# Altium footprint library PcbLib1.PcbLib: 123 footprints (part 3 of 8)
Each footprint in its own frame and in the unit in brackets; x right, y up, seen from the top. Pads: shape width x height; smd on the part's side, far side on the other; paste and mask are expansions set on the pad; w line width, h text height; cw(c..) or ccw(c..) is an arc to the next point about the centre after c.
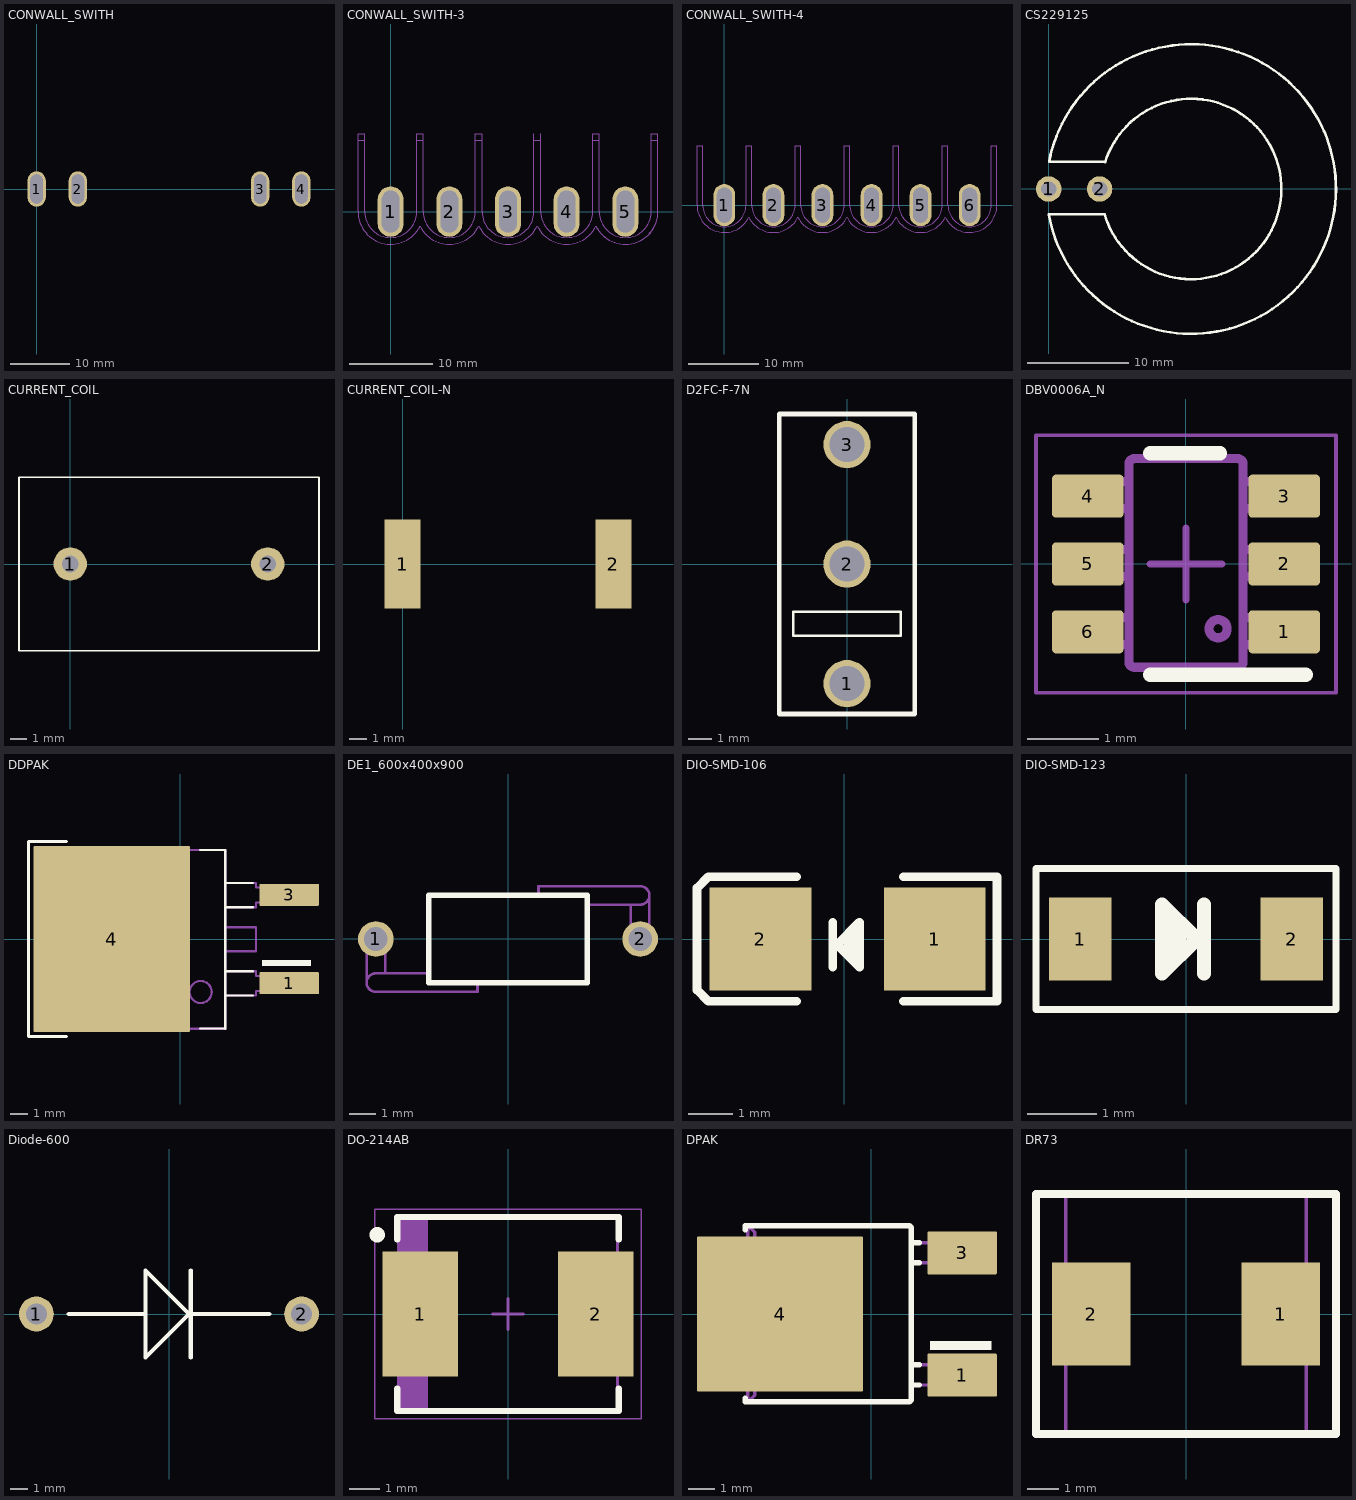
[diagram p2: the footprints below, top view; thin cyan lines are the x and y axes]

## CONWALL_SWITH [mm]
pads (4):
  oval 3.1x6 hole 2.1 slot 5 at 90 deg: 1(0,0) 2(7,0) 3(38,0) 4(45,0)
Mechanical 1:
  lines w0.013: 0,-2.45 0,2.45 ; 7,-2.451 7,2.45 ; -1.05,-1.4 ccw(c0,-1.4) 1.05,-1.4 1.05,1.4 ccw(c0,1.4) -1.05,1.4 -1.05,-1.4 ; 5.95,-1.4 ccw(c7,-1.4) 8.05,-1.4 8.05,1.4 ccw(c7,1.4) 5.95,1.4 5.95,-1.4 ; 36.95,-1.4 ccw(c38,-1.4) 39.05,-1.4 39.05,1.4 ccw(c38,1.4) 36.95,1.4 36.95,-1.4 ; 43.95,-1.4 ccw(c45,-1.4) 46.05,-1.4 46.05,1.4 ccw(c45,1.4) 43.95,1.4 43.95,-1.4

## CONWALL_SWITH-3 [mm]
pads (5):
  oval 3.1x6 hole 2.1 slot 5 at 90 deg: 1(0,0) 2(7,0) 3(14,0) 4(21,0) 5(28,0)
Mechanical 1:
  lines w0.013: 31.5,-1.72 cw(c28,0) 24.5,-1.72 ; -3.9,0 ccw(c0,0) 3.5,-1.72 ; -3.9,0 ccw(c0,0) 3.5,-1.72 ; -3.9,0 -3.9,9.3 -3.1,9.3 -3.1,0 ; -3.9,0 -3.9,8.5 -3.1,8.5 -3.1,0 ; -3.1,0 ccw(c0,0) 3.1,0 ; -3.1,0 ccw(c0,0) 3.1,0 ; -1.05,-1.4 ccw(c0,-1.4) 1.05,-1.4 ; -1.05,-1.4 ccw(c0,-1.4) 1.05,-1.4 ; -1.05,-1.4 -1.05,1.4 ; -1.05,-1.4 -1.05,1.4 ; -1.05,1.4 cw(c0,1.4) 1.05,1.4 ; -1.05,1.4 cw(c0,1.4) 1.05,1.4 ; 1.05,-1.4 1.05,1.4 ; 1.05,-1.4 1.05,1.4 ; 3.1,0 3.1,9.3 3.9,9.3 3.9,0 ; 3.1,0 3.1,8.5 3.9,8.5 3.9,0 ; 3.5,-1.72 ccw(c7,0) 10.5,-1.72 ; 3.5,-1.72 ccw(c7,0) 10.5,-1.72 ; 3.9,0 ccw(c7,0) 10.1,0 ; 3.9,0 ccw(c7,0) 10.1,0 ; 5.95,-1.4 ccw(c7,-1.4) 8.05,-1.4 ; 5.95,-1.4 ccw(c7,-1.4) 8.05,-1.4 ; 5.95,-1.4 5.95,1.4 ; 5.95,-1.4 5.95,1.4 ; 5.95,1.4 cw(c7,1.4) 8.05,1.4 ; 5.95,1.4 cw(c7,1.4) 8.05,1.4 ; 8.05,-1.4 8.05,1.4 ; 8.05,-1.4 8.05,1.4 ; 10.1,0 10.1,9.3 10.9,9.3 10.9,0 ; 10.1,0 10.1,8.5 10.9,8.5 10.9,0 ; 10.5,-1.72 ccw(c14,0) 17.5,-1.72 ; 10.5,-1.72 ccw(c14,0) 17.5,-1.72 ; 10.9,0 ccw(c14,0) 17.1,0 ; 10.9,0 ccw(c14,0) 17.1,0 ; 12.95,-1.4 ccw(c14,-1.4) 15.05,-1.4 ; 12.95,-1.4 ccw(c14,-1.4) 15.05,-1.4 ; 12.95,-1.4 12.95,1.4 ; 12.95,-1.4 12.95,1.4 ; 12.95,1.4 cw(c14,1.4) 15.05,1.4 ; 12.95,1.4 cw(c14,1.4) 15.05,1.4 ; 15.05,-1.4 15.05,1.4 ; 15.05,-1.4 15.05,1.4 ; 17.1,0 17.1,9.3 17.1,0 ; 17.1,0 17.1,8.5 17.9,8.5 17.9,0 ; 17.5,-1.72 ccw(c21,0) 24.5,-1.72 ; 17.5,-1.72 ccw(c21,0) 24.5,-1.72 ; 17.9,0 ccw(c21,0) 24.1,0 ; 17.9,0 ccw(c21,0) 24.1,0 ; 17.9,0 17.9,9.3 17.9,0 ; 19.95,-1.4 ccw(c21,-1.4) 22.05,-1.4 ; 19.95,-1.4 ccw(c21,-1.4) 22.05,-1.4 ; 19.95,-1.4 19.95,1.4 ; 19.95,-1.4 19.95,1.4 ; 19.95,1.4 cw(c21,1.4) 22.05,1.4 ; 19.95,1.4 cw(c21,1.4) 22.05,1.4 ; 22.05,-1.4 22.05,1.4 ; 22.05,-1.4 22.05,1.4 ; 24.1,0 24.1,9.3 24.9,9.3 24.9,0 ; 24.1,0 24.1,8.5 24.9,8.5 24.9,0 ; 24.5,-1.72 ccw(c28,0) 31.9,0 ; 24.9,0 ccw(c28,0) 31.1,0 ; 24.9,0 ccw(c28,0) 31.1,0 ; 26.95,-1.4 ccw(c28,-1.4) 29.05,-1.4 ; 26.95,-1.4 ccw(c28,-1.4) 29.05,-1.4 ; 26.95,-1.4 26.95,1.4 ; 26.95,-1.4 26.95,1.4 ; 26.95,1.4 cw(c28,1.4) 29.05,1.4 ; 26.95,1.4 cw(c28,1.4) 29.05,1.4 ; 29.05,-1.4 29.05,1.4 ; 29.05,-1.4 29.05,1.4 ; 31.1,0 31.1,9.3 31.9,9.3 31.9,0 ; 31.1,0 31.1,8.5 31.9,8.5 31.9,0
  lines w0.1: -1.05,0 1.05,0 ; 5.95,0 8.05,0 ; 12.95,0 15.05,0 ; 19.95,0 22.05,0 ; 26.95,0 29.05,0

## CONWALL_SWITH-4 [mm]
pads (6):
  oval 3.1x6 hole 2.1 slot 5 at 90 deg: 1(0,0) 2(7,0) 3(14,0) 4(21,0) 5(28,0) 6(35,0)
Mechanical 1:
  lines w0.013: -3.9,0 ccw(c0,0) 3.5,-1.72 ccw(c7,0) 10.5,-1.72 ccw(c14,0) 17.5,-1.72 ccw(c21,0) 24.5,-1.72 ccw(c28,0) 31.5,-1.72 ccw(c35,0) 38.9,0 38.9,8.5 38.1,8.5 38.1,0 cw(c35,0) 31.9,0 31.9,8.5 31.1,8.5 31.1,0 cw(c28,0) 24.9,0 24.9,8.5 24.1,8.5 24.1,0 cw(c21,0) 17.9,0 17.9,8.5 17.1,8.5 17.1,0 cw(c14,0) 10.9,0 10.9,8.5 10.1,8.5 10.1,0 cw(c7,0) 3.9,0 3.9,8.5 3.1,8.5 3.1,0 cw(c0,0) -3.1,0 -3.1,8.5 -3.9,8.5 -3.9,0 ; -1.05,-1.4 ccw(c0,-1.4) 1.05,-1.4 1.05,1.4 ccw(c0,1.4) -1.05,1.4 -1.05,-1.4 ; 5.95,-1.4 ccw(c7,-1.4) 8.05,-1.4 8.05,1.4 ccw(c7,1.4) 5.95,1.4 5.95,-1.4 ; 12.95,-1.4 ccw(c14,-1.4) 15.05,-1.4 15.05,1.4 ccw(c14,1.4) 12.95,1.4 12.95,-1.4 ; 19.95,-1.4 ccw(c21,-1.4) 22.05,-1.4 22.05,1.4 ccw(c21,1.4) 19.95,1.4 19.95,-1.4 ; 26.95,-1.4 ccw(c28,-1.4) 29.05,-1.4 29.05,1.4 ccw(c28,1.4) 26.95,1.4 26.95,-1.4 ; 33.95,-1.4 ccw(c35,-1.4) 36.05,-1.4 36.05,1.4 ccw(c35,1.4) 33.95,1.4 33.95,-1.4
  lines w0.1: -1.05,0 1.05,0 ; 5.95,0 8.05,0 ; 12.95,0 15.05,0 ; 19.95,0 22.05,0 ; 26.95,0 29.05,0 ; 33.95,0 36.05,0

## CS229125 [mm] "inductor 180uH, 5A"
pads (2):
  round 2.5 hole 1.5: 1(0,0) 2(5,0)
Top Overlay:
  lines w0.254: 0,-2.5 ccw(c14,0) 0.034,2.686 5.5,2.686 5.543,2.643 cw(c14,0) 5.5,-2.5 0,-2.5

## CURRENT_COIL [mm]
pads (2):
  round 2 hole 1 paste+0 mask+0: 1(0,0) 2(11.85,0)
Top Overlay:
  lines w0.1: -3.075,-5.2 -3.075,5.2 14.925,5.2 14.925,-5.2 -3.075,-5.2
Mechanical 1:
  circle w0.013: c0,0 r0.45
  circle w0.013: c11.85,0 r0.45

## CURRENT_COIL-N [mm]
pads (2):
  rect 2x5 smd paste+0 mask+0: 1(0,0) 2(11.85,0)

## D2FC-F-7N [mm] "Micro Switch – OMRON"
pads (3):
  round 2 hole 1.5: 1(0,-5.08) 2(0,0) 3(0,5.08)
Top Overlay:
  lines w0.1: -2.286,-3.048 -2.286,-2.032 2.286,-2.032 2.286,-3.048 -2.286,-3.048
  lines w0.2: -2.875,-6.375 2.875,-6.375 2.875,6.375 -2.875,6.375 -2.875,-6.375
Mechanical 1:
  circle w0.013: c0,4.9 r0.5
  circle w0.013: c0,-4.9 r0.5
Mechanical 2:
  circle w0.006: c0,6.375 r0.003

## DBV0006A_N [mm] "SOT23, 6-Leads, Body 2.9x1.6mm, Pitch 0.95mm, Lead Span 2.8mm, IPC Medium Density"
height 1.45
pads (6):
  rrect17% 1x0.6 smd: 1(1.375,-0.95) 2(1.375,0) 3(1.375,0.95) 4(-1.375,0.95) 5(-1.375,0) 6(-1.375,-0.95)
Top Overlay:
  lines w0.2: -0.5,-1.55 1.675,-1.55 ; -0.5,1.55 0.475,1.55
Mechanical 5:
  lines w0.127: -0.724,-1.446 cw(c-0.723,-1.37) -0.8,-1.37 -0.8,1.399 cw(c-0.723,1.399) -0.724,1.475 ; -0.724,-1.446 -0.723,-1.446 ; -0.723,-1.446 0.724,-1.446 0.725,-1.446 ccw(c0.724,-1.37) 0.801,-1.37 0.801,1.399 ccw(c0.724,1.399) 0.725,1.475 0.724,1.475 -0.723,1.475 ; -0.724,1.475 -0.723,1.475 ; -1.422,-1.125 -1.422,-0.751 -1.205,-0.751 -1.112,-0.751 -1.08,-0.751 -0.827,-0.751 -0.8,-0.751 -0.8,-1.125 -0.827,-1.125 -1.08,-1.125 -1.112,-1.125 -1.205,-1.125 -1.422,-1.125 ; -1.422,-0.173 -1.422,0.202 -1.205,0.202 -1.112,0.202 -1.08,0.202 -0.827,0.202 -0.8,0.202 -0.8,-0.173 -0.827,-0.173 -1.08,-0.173 -1.112,-0.173 -1.205,-0.173 -1.422,-0.173 ; -1.422,0.78 -1.422,1.154 -1.205,1.154 -1.112,1.154 -1.08,1.154 -0.827,1.154 -0.8,1.154 -0.8,0.78 -0.827,0.78 -1.08,0.78 -1.112,0.78 -1.205,0.78 -1.422,0.78 ; 0.323,-0.906 cw(c0.45,-0.906) 0.577,-0.906 cw(c0.45,-0.906) 0.323,-0.906 ; 0.801,-1.125 0.801,-0.751 0.828,-0.751 1.081,-0.751 1.113,-0.751 1.206,-0.751 1.423,-0.751 1.423,-1.125 1.206,-1.125 1.113,-1.125 1.081,-1.125 0.828,-1.125 0.801,-1.125 ; 0.801,-0.173 0.801,0.202 0.828,0.202 1.081,0.202 1.113,0.202 1.206,0.202 1.423,0.202 1.423,-0.173 1.206,-0.173 1.113,-0.173 1.081,-0.173 0.828,-0.173 0.801,-0.173 ; 0.801,0.78 0.801,1.154 0.828,1.154 1.081,1.154 1.113,1.154 1.206,1.154 1.423,1.154 1.423,0.78 1.206,0.78 1.113,0.78 1.081,0.78 0.828,0.78 0.801,0.78
Mechanical 15:
  lines w0.05: -2.1,-1.8 -2.1,1.8 2.1,1.8 2.1,-1.8 -2.1,-1.8
  lines w0.1: -0.5,0 0.5,0 ; 0,-0.5 0,0.5
3D body: height 1.12, standoff 0, extent -1.423,-1.461 1.422,1.46

## DDPAK [mil] "D2-PAK, 3-Pads, Body 9.7x10.4mm (max), TO-263AB, using Vishay Silionix recommended pad sizes"
height 190
pads (3):
  rrect8% 135x49.49 smd: 1(246.06,-100) 3(246.06,100)
  rrect1% 355x420 smd paste-181.1: 4(-155.51,0)
Top Overlay:
  region: 295.28,-47.24 185.04,-47.24 185.04,-61.02 295.28,-61.02
  lines w5: 44.29,-202.56 101.38,-202.56 ; 44.29,201.38 101.38,201.38 ; 44.29,201.77 101.38,201.77 101.38,201.38 ; 101.38,-202.95 101.38,-202.56 ; 101.38,-127.95 164.37,-127.95 ; 101.38,-73.23 164.37,-73.23 ; 101.38,72.05 164.37,72.05 ; 101.38,126.77 164.37,126.77 ; 101.38,-202.56 101.38,201.38
  lines w7: -258.09,-220.47 -344,-220.47 -344,220.47 -258.09,220.47
Top Paste:
  region: 17.72,-147.44 -30.28,-147.44 -30.28,-206.26 17.72,-206.26
  region: -42.09,-147.44 -90.08,-147.44 -90.08,-206.26 -42.09,-206.26
  region: -101.89,-147.44 -149.88,-147.44 -149.88,-206.26 -101.89,-206.26
  region: -161.69,-147.44 -209.69,-147.44 -209.69,-206.26 -161.69,-206.26
  region: -221.5,-147.44 -269.49,-147.44 -269.49,-206.26 -221.5,-206.26
  region: -281.3,-147.44 -329.29,-147.44 -329.29,-206.26 -281.3,-206.26
  region: 17.72,-76.81 -30.28,-76.81 -30.28,-135.63 17.72,-135.63
  region: -42.09,-76.81 -90.08,-76.81 -90.08,-135.63 -42.09,-135.63
  region: -101.89,-76.81 -149.88,-76.81 -149.88,-135.63 -101.89,-135.63
  region: -161.69,-76.81 -209.69,-76.81 -209.69,-135.63 -161.69,-135.63
  region: -221.5,-76.81 -269.49,-76.81 -269.49,-135.63 -221.5,-135.63
  region: -281.3,-76.81 -329.29,-76.81 -329.29,-135.63 -281.3,-135.63
  region: 17.72,-6.18 -30.28,-6.18 -30.28,-65 17.72,-65
  region: -42.09,-6.18 -90.08,-6.18 -90.08,-65 -42.09,-65
  region: -101.89,-6.18 -149.88,-6.18 -149.88,-65 -101.89,-65
  region: -161.69,-6.18 -209.69,-6.18 -209.69,-65 -161.69,-65
  region: -221.5,-6.18 -269.49,-6.18 -269.49,-65 -221.5,-65
  region: -281.3,-6.18 -329.29,-6.18 -329.29,-65 -281.3,-65
  region: 17.72,64.45 -30.28,64.45 -30.28,5.63 17.72,5.63
  region: -42.09,64.45 -90.08,64.45 -90.08,5.63 -42.09,5.63
  region: -101.89,64.45 -149.88,64.45 -149.88,5.63 -101.89,5.63
  region: -161.69,64.45 -209.69,64.45 -209.69,5.63 -161.69,5.63
  region: -221.5,64.45 -269.49,64.45 -269.49,5.63 -221.5,5.63
  region: -281.3,64.45 -329.29,64.45 -329.29,5.63 -281.3,5.63
  region: 17.72,135.08 -30.28,135.08 -30.28,76.26 17.72,76.26
  region: -42.09,135.08 -90.08,135.08 -90.08,76.26 -42.09,76.26
  region: -101.89,135.08 -149.88,135.08 -149.88,76.26 -101.89,76.26
  region: -161.69,135.08 -209.69,135.08 -209.69,76.26 -161.69,76.26
  region: -221.5,135.08 -269.49,135.08 -269.49,76.26 -221.5,76.26
  region: -281.3,135.08 -329.29,135.08 -329.29,76.26 -281.3,76.26
  region: -281.3,205.71 -329.29,205.71 -329.29,146.89 -281.3,146.89
  region: -221.5,205.71 -269.49,205.71 -269.49,146.89 -221.5,146.89
  region: -161.69,205.71 -209.69,205.71 -209.69,146.89 -161.69,146.89
  region: -101.89,205.71 -149.88,205.71 -149.88,146.89 -101.89,146.89
  region: -42.09,205.71 -90.08,205.71 -90.08,146.89 -42.09,146.89
  region: 17.72,205.71 -30.28,205.71 -30.28,146.89 17.72,146.89
Mechanical 5:
  lines w5: -268.43,-202.56 -306.93,-202.56 -323.43,-158.07 -323.43,156.89 -306.93,201.38 -268.43,201.38 ; 101.38,-127.95 171.06,-127.95 171.06,-117.52 183.27,-117.52 223.81,-117.52 ; 101.38,-73.23 171.06,-73.23 171.06,-83.66 183.27,-83.66 223.81,-83.66 ; 101.38,-27.95 171.06,-27.95 171.06,26.77 101.38,26.77 ; 101.38,72.05 171.06,72.05 171.06,82.48 183.27,82.48 223.81,82.48 ; 101.38,126.77 171.06,126.77 171.06,116.34 183.27,116.34 223.81,116.34 ; -268.43,-202.95 -268.43,201.77 ; -268.43,-202.95 101.38,-202.95 101.38,-202.56 ; -268.43,-202.95 -239.17,-202.56 ; -268.43,201.77 -239.17,201.38 ; -268.43,201.77 101.38,201.77 101.38,201.38 ; -239.17,-202.56 -239.17,201.38 ; -239.17,-202.56 101.38,-202.56 ; -239.17,201.38 101.38,201.38 ; 101.38,-202.56 101.38,201.38 ; 223.81,-117.52 246.26,-117.52 296.26,-117.52 296.26,-83.66 246.26,-83.66 223.81,-83.66 ; 223.81,-117.52 223.81,-83.66 ; 223.81,82.48 246.26,82.48 296.26,82.48 296.26,116.34 246.26,116.34 223.81,116.34 ; 223.81,82.48 223.81,116.34 ; 20.58,-119.94 ccw(c45.58,-119.94) 70.58,-119.94 ccw(c45.58,-119.94) 20.58,-119.94
  text ".Designator" at 60,20 h40
3D body: height 180.31, standoff 0, extent -324.41,-202.36 295.27,202.36

## DE1_600x400x900 [mm] "TH, 2-Leads, Dia 6mm, Lead Spacing 10mm"
height 9
pads (2):
  round 1.35 hole 0.9: 1(-5,0) 2(5,0)
Top Overlay:
  lines w0.2: -3,-1.65 3,-1.65 3,1.65 -3,1.65 -3,-1.65
Mechanical 5:
  lines w0.1: -5.35,-1.65 -5.35,0 cw(c-5,0) -4.65,0 -4.65,-1.3 ; -3,-1.3 -4.5,-1.3 -5,-1.3 ccw(c-5,-1.65) -5,-2 -4.5,-2 -1.155,-2 -1.155,-1.65 ; 1.155,1.65 1.155,2 4.5,2 5,2 cw(c5,1.65) 5,1.3 4.5,1.3 3,1.3 ; 4.65,1.3 4.65,0 ccw(c5,0) 5.35,0 5.35,1.65 ; -3,-1.65 -3,1.65 3,1.65 3,-1.65 -3,-1.65
3D body: height 9, standoff -5, extent -5.35,-2 5.35,2

## DIO-SMD-106 [mil]
height 157.48
pads (2):
  rect 90x90.55 smd: 1(80,0) 2(-74,0)
Top Overlay:
  lines w7.87: -42.24,-55 -120,-55 -130,-45 -130,45 -120,55 -42.24,55 ; -10.12,-24.68 -10.12,14.69 ; 3.66,-10.91 3.66,0.91 ; 9.57,-16.81 9.57,6.81 ; 52.24,-55 135,-55 135,55 52.24,55 ; -6.18,-5 13.5,-24.68 13.5,14.69 -6.18,-5
Mechanical 1:
  lines w3.94: -2.87,0 12.87,0 ; 5,-7.87 5,7.87
3D body: height 94.69, standoff 0, extent -98.7,-50.27 106.03,52.09

## DIO-SMD-123 [mm]
height 1
pads (2):
  rect 0.9x1.2 smd: 1(-1.524,0) 2(1.524,0)
Top Overlay:
  lines w0.102: -2.159,-1.016 -2.159,1.016 2.159,1.016 2.159,-1.016 -2.159,-1.016
  lines w0.2: -0.243,-0.3 -0.243,0.3 ; -0.093,-0.15 -0.093,0.15 ; 0.257,-0.5 0.257,0.5 ; -0.343,-0.5 0.157,0 -0.343,0.5 -0.343,-0.5
3D body: height 1.25, standoff 0, extent -1.942,-0.8 1.756,0.8

## Diode-600 [mm]
pads (2):
  round 2 hole 1.2: 1(-7.62,0) 2(7.62,0)
Top Overlay:
  lines w0.254: -5.75,0 -1.4,0 ; 1.25,-2.5 1.25,2.5 ; 5.75,0 1.15,0 ; 1.15,0 -1.35,-2.5 -1.35,2.5 1.15,0

## DO-214AB [mm] "Molded Diode, 2-Leads, Body 6.85x5.90mm, IPC Medium Density"
height 1.8
pads (2):
  rect 2.45x4.05 smd: 1(-2.85,0) 2(2.85,0)
Top Overlay:
  circle w0.25: c-4.25,2.575 r0.125
  lines w0.2: -3.6,-2.425 -3.6,-3.15 3.6,-3.15 3.6,-2.425 ; -3.6,2.425 -3.6,3.15 3.6,3.15 3.6,2.425
Mechanical 13:
  rectangle: -3.555,-3.11 -2.599,3.11
  lines w0.1: -3.555,-3.11 3.555,-3.11 3.555,3.11 -3.555,3.11 -3.555,-3.11
Mechanical 15:
  lines w0.05: -4.325,-3.4 4.325,-3.4 4.325,3.4 -4.325,3.4 -4.325,-3.4
  lines w0.1: -0.5,0 0.5,0 ; 0,-0.5 0,0.5
3D body: height 1.8, standoff 0, extent -3.555,-3.11 3.555,3.11

## DPAK [mm] "D-PAK, 3-Pads, Body 6.22x6.73mm (max), TO-252AA using nominal STEP model"
height 2.39
pads (3):
  rrect6% 2.6x1.6 smd: 1(3.4,-2.28) 3(3.4,2.28)
  rrect2% 6.2x5.8 smd paste-2.9: 4(-3.4,0)
Top Overlay:
  region: 4.5,-1 2.2,-1 2.2,-1.35 4.5,-1.35
  lines w0.2: -4.7,-3.15 -4.7,-3.28 1.429,-3.28 1.5,-3.209 1.5,-3.137 1.5,1.915 ; -4.7,3.15 -4.7,3.28 ; -4.7,3.3 1.429,3.3 1.5,3.229 1.5,3.157 1.5,2.665 ; 1.5,-2.65 1.8,-2.65 ; 1.5,-1.9 1.8,-1.9 ; 1.5,1.915 1.5,2.665 ; 1.5,1.915 1.8,1.915 ; 1.5,1.915 1.5,2.665 ; 1.5,1.915 1.8,1.915 ; 1.5,1.915 1.5,2.665 ; 1.5,1.915 1.8,1.915 ; 1.5,2.665 1.8,2.665 ; 1.5,2.665 1.8,2.665 ; 1.5,2.665 1.8,2.665
Top Paste:
  region: -0.4,-1.625 -1.675,-1.625 -1.675,-2.8 -0.4,-2.8
  region: -1.975,-1.625 -3.25,-1.625 -3.25,-2.8 -1.975,-2.8
  region: -3.55,-1.625 -4.825,-1.625 -4.825,-2.8 -3.55,-2.8
  region: -5.125,-1.625 -6.4,-1.625 -6.4,-2.8 -5.125,-2.8
  region: -0.4,-0.15 -1.675,-0.15 -1.675,-1.325 -0.4,-1.325
  region: -1.975,-0.15 -3.25,-0.15 -3.25,-1.325 -1.975,-1.325
  region: -3.55,-0.15 -4.825,-0.15 -4.825,-1.325 -3.55,-1.325
  region: -5.125,-0.15 -6.4,-0.15 -6.4,-1.325 -5.125,-1.325
  region: -0.4,1.325 -1.675,1.325 -1.675,0.15 -0.4,0.15
  region: -1.975,1.325 -3.25,1.325 -3.25,0.15 -1.975,0.15
  region: -3.55,1.325 -4.825,1.325 -4.825,0.15 -3.55,0.15
  region: -5.125,1.325 -6.4,1.325 -6.4,0.15 -5.125,0.15
  region: -5.125,2.8 -6.4,2.8 -6.4,1.625 -5.125,1.625
  region: -3.55,2.8 -4.825,2.8 -4.825,1.625 -3.55,1.625
  region: -1.975,2.8 -3.25,2.8 -3.25,1.625 -1.975,1.625
  region: -0.4,2.8 -1.675,2.8 -1.675,1.625 -0.4,1.625
Mechanical 5:
  lines w0.127: 1.5,-2.65 2.757,-2.65 3.157,-2.65 ; 1.5,-1.9 2.757,-1.9 3.157,-1.9 ; -4.6,-3.28 -4.348,-3.028 -4.348,3.048 -4.6,3.3 ; -4.6,-3.28 -4.6,-2.67 -5.8,-2.67 -5.8,-1.99 -5.308,-1.99 -5.308,2.01 -5.8,2.01 -5.8,2.69 -4.6,2.69 -4.6,3.3 ; -4.6,-3.28 1.429,-3.28 1.5,-3.209 1.5,-3.137 1.5,1.915 ; -4.6,3.3 1.429,3.3 1.5,3.229 1.5,3.157 1.5,2.665 ; 1.5,1.915 2.757,1.915 ; 1.5,1.915 1.5,2.665 ; 1.5,1.915 2.757,1.915 ; 1.5,1.915 1.5,2.665 ; 1.5,1.915 2.757,1.915 ; 1.5,1.915 1.5,2.665 ; 1.5,2.665 2.757,2.665 ; 1.5,2.665 2.757,2.665 ; 1.5,2.665 2.757,2.665 ; 2.757,1.915 3.157,1.915 ; 2.757,1.915 3.157,1.915 ; 2.757,1.915 3.157,1.915 ; 2.757,2.665 3.157,2.665 ; 2.757,2.665 3.157,2.665 ; 2.757,2.665 3.157,2.665 ; 3.157,-2.65 3.357,-2.65 3.899,-2.65 3.899,-1.9 3.357,-1.9 3.157,-1.9 ; 3.157,-2.65 3.157,-1.9 ; 3.157,1.915 3.357,1.915 ; 3.157,1.915 3.157,2.665 ; 3.157,1.915 3.357,1.915 ; 3.157,1.915 3.157,2.665 ; 3.157,1.915 3.357,1.915 ; 3.157,1.915 3.157,2.665 ; 3.157,2.665 3.357,2.665 ; 3.157,2.665 3.357,2.665 ; 3.157,2.665 3.357,2.665 ; 3.357,1.915 3.899,1.915 ; 3.357,1.915 3.899,1.915 ; 3.357,1.915 3.899,1.915 ; 3.357,2.665 3.899,2.665 ; 3.357,2.665 3.899,2.665 ; 3.357,2.665 3.899,2.665 ; 3.899,1.915 3.899,2.665 ; 3.899,1.915 3.899,2.665 ; 3.899,1.915 3.899,2.665
3D body: height 2.48, standoff 0.01, extent -5.843,-3.29 3.856,3.29

## DR73 [mm]
height 3.55
pads (2):
  rect 2.5x3.25 smd: 1(3,0) 2(-3,0)
Top Overlay:
  lines w0.254: -4.75,-3.8 4.75,-3.8 4.75,3.8 -4.75,3.8 -4.75,-3.8
Mechanical 5:
  lines w0.102: -3.81,-3.81 -3.81,3.81 3.81,3.81 3.81,3.302 3.81,-3.81 -3.81,-3.81
3D body: height 3.55, standoff 0, extent -3.8,-3.8 3.8,3.8